# Altium schematic symbol library DLW21HN900SQ2L.SchLib: 2 symbols
Pins are listed as number, name and electrical type; pins without a type are passive.

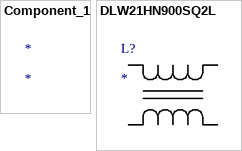
[diagram p0: symbols Component_1 to DLW21HN900SQ2L]

## Component_1
designator *

## DLW21HN900SQ2L
designator L?
No Description Available; Mfr_Name: Murata
footprint IND_DLW21H_0805_MUR
pins: 1, 2, 3, 4